# Altium schematic symbol library Sensor Accelerometer.SchLib: 1 symbol
Pins are listed as number, name and electrical type; pins without a type are passive.

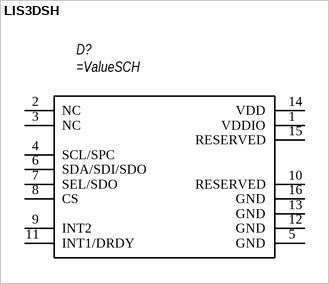
[diagram p0: symbol LIS3DSH]

## LIS3DSH
designator D?
pins: 1 VDDIO, 2 NC, 3 NC, 4 SCL/SPC, 5 GND, 6 SDA/SDI/SDO, 7 SEL/SDO, 8 CS, 9 INT2, 10 RESERVED, 11 INT1/DRDY, 12 GND, 13 GND, 14 VDD, 15 RESERVED, 16 GND